# EAGLE library part FGPMMOPA6H (library zortness)
FGPMMOPA6H GPS Module Used as AdaFruit Ultimate GPS Module <http://www.adafruit.com/products/790> Data Sheet <http://www.adafruit.com/datasheets/GlobalTop-FGPMMOPA6H-Datasheet-V0A.pdf>
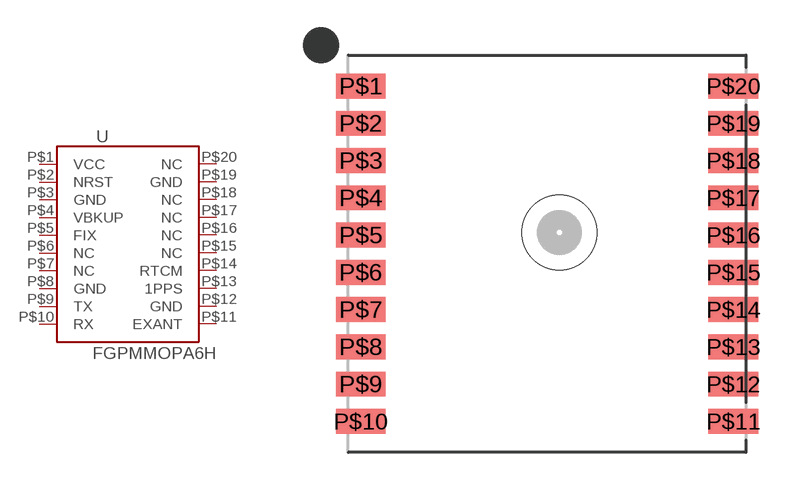
[diagram p6: symbol with the pads of FGPMMOPA6H; footprint FGPMMOPA6H]

Designator prefix U

## FGPMMOPA6H  [FGPMMOPA6H]
P$1  VCC  pwr
P$2  NRST  in
P$3  GND  pwr
P$4  VBKUP  pwr
P$5  FIX  out
P$6  NC  nc
P$7  NC  nc
P$8  GND  pwr
P$9  TX
P$10  RX
P$11  EXANT
P$12  GND  pwr
P$13  1PPS  out
P$14  RTCM
P$15  NC  nc
P$16  NC  nc
P$17  NC  nc
P$18  NC  nc
P$19  GND  pwr
P$20  NC  nc

## Footprint FGPMMOPA6H (pad centres in mm)
smd 2 x 1: P$1 -7.5,6.75; P$2 -7.5,5.25; P$3 -7.5,3.75; P$4 -7.5,2.25; P$5 -7.5,0.75; P$6 -7.5,-0.75; P$7 -7.5,-2.25; P$8 -7.5,-3.75; P$9 -7.5,-5.25; P$10 -7.5,-6.75; P$11 7.5,-6.75; P$12 7.5,-5.25; P$13 7.5,-3.75; P$14 7.5,-2.25; P$15 7.5,-0.75; P$16 7.5,0.75; P$17 7.5,2.25; P$18 7.5,3.75; P$19 7.5,5.25; P$20 7.5,6.75
hole 3 at 0.5,0.85